# Altium schematic symbol library BPS.SchLib: 14 symbols
Pins are listed as number, name and electrical type; pins without a type are passive.

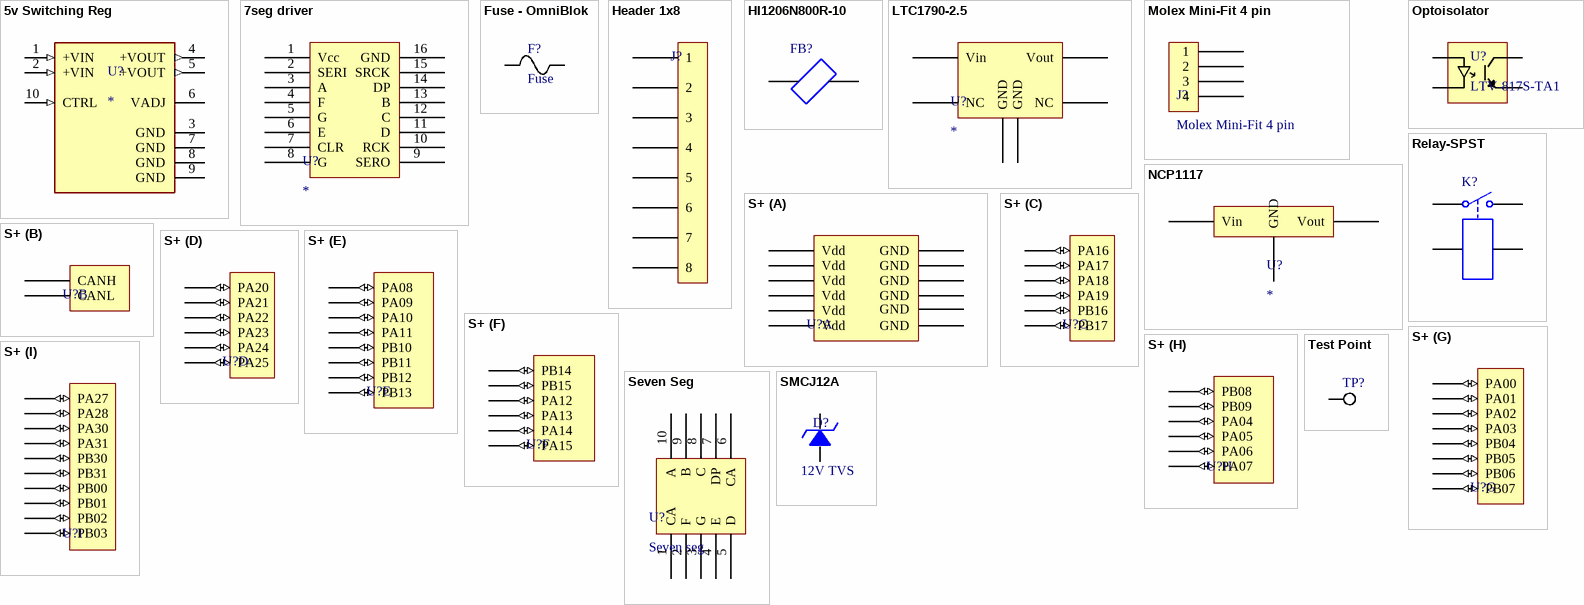
[diagram p0: symbols 5v Switching Reg to Test Point]

## 5v Switching Reg
designator U?
1A DC/DC-Converter 'INNOLINE' SMD reg; MF: Recom Power; MP: R-78AA5.0-1.0SMD-R; Value: *; Package: SMD-10 Recom Power; DigiKey-Purchase-URL: https://snapeda.com/shop?store=DigiKey&id=480105; SnapEDA_Link: https://www.snapeda.com/parts/R-78AA5.0-1.0SMD-R/Recom%20Power/view-part/480105/?ref=snap; Mouser-Purchase-URL: https://snapeda.com/shop?store=Mouser&id=480105; Digi-Key_Part_Number: 945-1044-1-ND; BuyPart: https://www.snapeda.com/parts/R-78AA5.0-1.0SMD-R/Recom%20Power/view-part/480105/?ref=eda; DigiKey: 945-1044-2-ND
footprint 5v Reg
pins: 1 +VIN (in), 2 +VIN (in), 3 GND (power), 4 +VOUT (out), 5 +VOUT (out), 6 VADJ, 7 GND (power), 8 GND (power), 9 GND (power), 10 CTRL (in)

## 7seg driver
designator U?
ComponentLink1Description: Digikey; ComponentLink1URL: https://www.digikey.com/product-detail/en/texas-instruments/TPIC6C596DRG4/296-22435-1-ND/1667004
footprint LED Driver
pins: 1 Vcc, 2 SERI, 3 A, 4 F, 5 G, 6 E, 7 CLR, 8 G, 9 SERO, 10 RCK, 11 D, 12 C, 13 B, 14 DP, 15 SRCK, 16 GND

## Fuse - OmniBlok
designator F?, comment Fuse
OmniBlok fuse Holder; Digikey-Socket: http://www.digikey.com/product-detail/en/littelfuse-inc/01550900M/F1889-ND/2519878; Digikey-Fuse: http://www.digikey.com/product-detail/en/littelfuse-inc/0451001.MRL/F2577CT-ND/813055
footprint OMNIBLOCK FUSE HOLDER
footprint OMNIBLOCK FUSE HOLDER
pins: 1, 2

## Header 1x8
designator J?  (value not drawn)
Digikey: http://www.digikey.com/product-detail/en/molex-llc/0705530001/WM4900-ND/114951; Datasheet: http://www.molex.com/pdm_docs/sd/705530001_sd.pdf; Supplier 1: Digi-Key; Supplier Part Number 1: WM4900-ND; Mates To: http://www.digikey.com/product-detail/en/molex-llc/0050579402/WM2900-ND/115029; Pins: https://www.digikey.com/product-detail/en/te-connectivity-amp-connectors/5-146256-4/A121467-ND/2275818
footprint Header 1x8 (0.1in pitch)
pins: 1, 2, 3, 4, 5, 6, 7, 8

## HI1206N800R-10
designator FB?  (value not drawn)
80 Ohms @ 100MHz 1 Power, Signal Line Ferrite Bead 1206 (3216 Metric) 3A 35mOhm; MF: Laird-Signal Integrity; SnapEDA_Link: https://www.snapeda.com/parts/HI1206N800R-10/Laird-Signal%20Integrity%20Products/view-part/296889/?ref=snap; Purchase-URL: https://pricing.snapeda.com/search/part/HI1206N800R-10/?ref=eda; Check_prices: https://www.snapeda.com/parts/HI1206N800R-10/Laird-Signal%20Integrity%20Products/view-part/296889/?ref=eda; Value: *; Digi-Key_Part_Number: 240-2409-1-ND; Package: 1206 Laird-Signal Integrity; MP: HI1206N800R-10
footprint FB_HI1206N800R-10
pins: 1, 2

## LTC1790-2.5
designator U?
pins: 1 GND, 3 NC, 4 Vin, 5 NC, 6 Vout, 18 GND

## Molex Mini-Fit 4 pin
designator J?
footprint Molex Mini-Fit Jr. 4-Pin - no flange (4-Pin Moles Mini-Fit Jr. Right Angle Header)
pins: 1, 2, 3, 4

## NCP1117
designator U?
ComponentLink1Description: Digikey; ComponentLink1URL: https://www.digikey.com/product-detail/en/on-semiconductor/NCP1117DT33T5G/NCP1117DT33T5GOSCT-ND/2121236
footprint NCP1117-DPAK
pins: 1 GND, 2 Vout, 3 Vin

## Optoisolator
designator U?, comment LTV-817S-TA1
OPTOISOLATR 5KV TRANSISTOR 4-SMD; Digi-Key: https://www.digikey.com/product-detail/en/lite-on-inc/LTV-817S-TA1/160-1893-1-ND/3306757; datasheet: http://optoelectronics.liteon.com/upload/download/DS-70-96-0016/LTV-8X7%20series%20201610%20.pdf
footprint Optoisolator
pins: 1, 2, 3, 4

## Relay-SPST
designator K?
Single-Pole Single-Throw Relay; Published: 24-Mar-1999; LatestRevisionDate: 17-Jul-2002; LatestRevisionNote: Re-released for DXP Platform.; PackageReference: MODULE4; Publisher: Altium Limited
simulation model SPSTRELAY (Spice Subcircuit)
footprint Realy (G5CA)
pins: 1, 2, 3, 4

## S+
designator U?  (value not drawn)
Need to get 4 of PPPC161LFBN-RC; Digi-key: https://www.digikey.com/product-detail/en/sullins-connector-solutions/PPPC161LFBN-RC/S7049-ND/810188; datasheet: https://media.digikey.com/pdf/Data%20Sheets/Sullins%20PDFs/Female_Headers.100_DS.pdf
footprint Compute S+
part A pins: GND, GND, GND, GND, GND, GND, Vdd, Vdd, Vdd, Vdd, Vdd, Vdd
part B pins: CANH, CANL
part C pins: PA16 (io), PA17 (io), PA18 (io), PA19 (io), PB16 (io), PB17 (io)
part D pins: PA20 (io), PA21 (io), PA22 (io), PA23 (io), PA24 (io), PA25 (io)
part E pins: PA08 (io), PA09 (io), PA10 (io), PA11 (io), PB10 (io), PB11 (io), PB12 (io), PB13 (io)
part F pins: PA12 (io), PA13 (io), PA14 (io), PB09 PA15 (io), PB14 (io), PB15 (io)
part G pins: PA00 (io), PA01 (io), PA02 (io), PA03 (io), PB04 (io), PB05 (io), PB06 (io), PB07 (io)
part H pins: PA04 (io), PA05 (io), PA06 (io), PA07 (io), PB08 (io), PB09 (io)
part I pins: PA27 (io), PA28 (io), PA30 (io), PA31 (io), PB00 (io), PB01 (io), PB02 (io), PB03 (io), PB30 (io), PB31 (io)
1 alternate drawing of the same symbol

## Seven Seg
designator U?, comment Seven seg
ComponentLink1Description: Data Sheet; ComponentLink1URL: https://media.digikey.com/pdf/Data%20Sheets/Lite-On%20PDFs/LSHD-A101.pdf; ComponentLink2Description: Digi Key; ComponentLink2URL: https://www.digikey.com/products/en?mpart=LSHD-A101&v=160
footprint 1x7seg
pins: 1 CA, 2 F, 3 G, 4 E, 5 D, 6 CA, 7 DP, 8 C, 9 B, 10 A

## SMCJ12A
designator D?  value 12V TVS  (hidden comment: *)
12V TVS; Created: 10/27/10; ComponentLink1URL: http://www.littelfuse.com/data/en/Data_Sheets/Littelfuse_TVS_Diode_SMCJ.pdf; ComponentLink1Description: Datasheet
footprint DO214 (DO-214-AC/SMA; 2 C-Bend Leads; Body 5.3 x 2.6 mm, inc. leads (LxW))
pins: 1, 2

## Test Point
designator TP?  (value not drawn)
footprint Test Point (Round Pad for Probing)
pins: 1